# Altium schematic symbol library Microchip Microcontroller 8-Bit -ATtiny .SchLib: 1 symbol
Pins are listed as number, name and electrical type; pins without a type are passive.

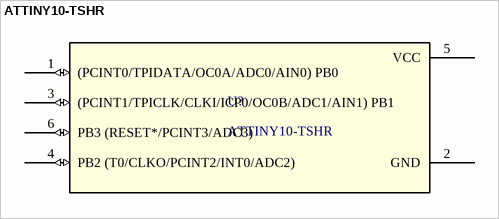
[diagram p0: symbol ATTINY10-TSHR]

## ATTINY10-TSHR
designator U?
No Description Available; Built_By: EMA_UL_Team; Vendor: Atmel; SourceLibrary: Atmel_2011-04-02; Manufacturer_Part_Number: ATTINY10-TSHR; Copyright: Copyright (C) 2018 Accelerated Designs. All rights reserved; RefDes: RefDes; Type: DEV
footprint 6ST1_ATM
footprint 6ST1_ATM-L
footprint 6ST1_ATM-M
pins: 1 (PCINT0/TPIDATA/OC0A/ADC0/AIN0) PB0 (io), 2 GND (power), 3 (PCINT1/TPICLK/CLKI/ICP0/OC0B/ADC1/AIN1) PB1 (io), 4 PB2 (T0/CLKO/PCINT2/INT0/ADC2) (io), 5 VCC (power), 6 PB3 (RESET*/PCINT3/ADC3) (io)